# Altium schematic symbol library supply1.SCHLIB: 28 symbols
Pins are listed as number, name and electrical type; pins without a type are passive.

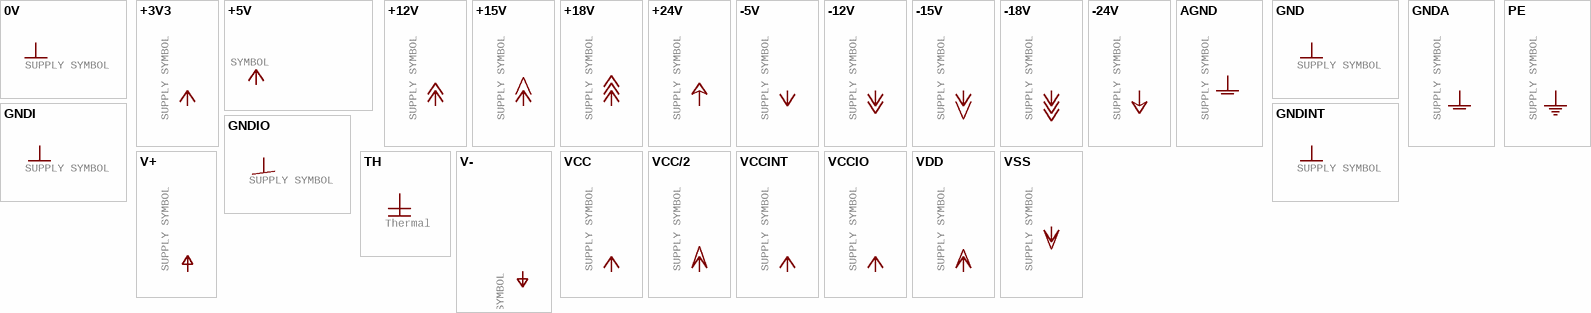
[diagram p0: symbols 0V to VSS]

## 0V
designator GND?, comment SUPPLY SYMBOL
GateName_1: 1; SymbolName_1: 0V; LibraryName: supply1; DeviceSetName: 0V
pins: ?1 0V (power)

## +3V3
designator +3V3?, comment SUPPLY SYMBOL
GateName_1: G$1; SymbolName_1: +3V3; LibraryName: supply1; DeviceSetName: +3V3
pins: ?1 +3V3 (power)

## +5V
designator P+?, comment SUPPLY SYMBOL
GateName_1: 1; SymbolName_1: +5V; LibraryName: supply1; DeviceSetName: +5V
pins: ?1 +5V (power)

## +12V
designator P+?, comment SUPPLY SYMBOL
GateName_1: 1; SymbolName_1: +12V; LibraryName: supply1; DeviceSetName: +12V
pins: ?1 +12V (power)

## +15V
designator P+?, comment SUPPLY SYMBOL
GateName_1: 1; SymbolName_1: +15V; LibraryName: supply1; DeviceSetName: +15V
pins: ?1 +15V (power)

## +18V
designator P+?, comment SUPPLY SYMBOL
GateName_1: 1; SymbolName_1: +18V; LibraryName: supply1; DeviceSetName: +18V
pins: ?1 +18V (power)

## +24V
designator P+?, comment SUPPLY SYMBOL
GateName_1: 1; SymbolName_1: +24V; LibraryName: supply1; DeviceSetName: +24V
pins: ?1 +24V (power)

## -5V
designator P-?, comment SUPPLY SYMBOL
GateName_1: 1; SymbolName_1: -5V; LibraryName: supply1; DeviceSetName: -5V
pins: ?1 -5V (power)

## -12V
designator P-?, comment SUPPLY SYMBOL
GateName_1: 1; SymbolName_1: -12V; LibraryName: supply1; DeviceSetName: -12V
pins: ?1 -12V (power)

## -15V
designator P-?, comment SUPPLY SYMBOL
GateName_1: 1; SymbolName_1: -15V; LibraryName: supply1; DeviceSetName: -15V
pins: ?1 -15V (power)

## -18V
designator P-?, comment SUPPLY SYMBOL
GateName_1: 1; SymbolName_1: -18V; LibraryName: supply1; DeviceSetName: -18V
pins: ?1 -18V (power)

## -24V
designator P-?, comment SUPPLY SYMBOL
GateName_1: 1; SymbolName_1: -24V; LibraryName: supply1; DeviceSetName: -24V
pins: ?1 -24V (power)

## AGND
designator AGND?, comment SUPPLY SYMBOL
GateName_1: VR1; SymbolName_1: AGND; LibraryName: supply1; DeviceSetName: AGND
pins: ?1 AGND (power)

## GND
designator GND?, comment SUPPLY SYMBOL
GateName_1: 1; SymbolName_1: GND; LibraryName: supply1; DeviceSetName: GND
pins: ?1 GND (power)

## GNDA
designator GND?, comment SUPPLY SYMBOL
GateName_1: 1; SymbolName_1: GNDA; LibraryName: supply1; DeviceSetName: GNDA
pins: ?1 GNDA (power)

## GNDI
designator GNDI?, comment SUPPLY SYMBOL
GateName_1: G$1; SymbolName_1: GNDI; LibraryName: supply1; DeviceSetName: GNDI
pins: ?1 GNDI (power)

## GNDINT
designator GND?, comment SUPPLY SYMBOL
GateName_1: G$1; SymbolName_1: GNDINT; LibraryName: supply1; DeviceSetName: GNDINT
pins: ?1 GNDINT (power)

## GNDIO
designator GND?, comment SUPPLY SYMBOL
GateName_1: G$1; SymbolName_1: GNDIO; LibraryName: supply1; DeviceSetName: GNDIO
pins: ?1 GNDIO (power)

## PE
designator PE?, comment SUPPLY SYMBOL
GateName_1: M; SymbolName_1: PE; LibraryName: supply1; DeviceSetName: PE
pins: ?1 PE (power)

## TH
designator TH?, comment Thermal
GateName_1: G$1; SymbolName_1: TH; LibraryName: supply1; DeviceSetName: TH
pins: ?1 TH (power)

## V+
designator P+?, comment SUPPLY SYMBOL
GateName_1: 1; SymbolName_1: V+; LibraryName: supply1; DeviceSetName: V+
pins: ?1 V+ (power)

## V-
designator P-?, comment SUPPLY SYMBOL
GateName_1: 1; SymbolName_1: V-; LibraryName: supply1; DeviceSetName: V-
pins: ?1 V- (power)

## VCC
designator P+?, comment SUPPLY SYMBOL
GateName_1: VCC; SymbolName_1: VCC; LibraryName: supply1; DeviceSetName: VCC
pins: ?1 VCC (power)

## VCC/2
designator P+?, comment SUPPLY SYMBOL
GateName_1: G$1; SymbolName_1: VCC/2; LibraryName: supply1; DeviceSetName: VCC/2
pins: ?1 VCC/2 (power)

## VCCINT
designator VCC?, comment SUPPLY SYMBOL
GateName_1: G$1; SymbolName_1: VCCINT; LibraryName: supply1; DeviceSetName: VCCINT
pins: ?1 VCCINT (power)

## VCCIO
designator VCC?, comment SUPPLY SYMBOL
GateName_1: G$1; SymbolName_1: VCCIO; LibraryName: supply1; DeviceSetName: VCCIO
pins: ?1 VCCIO (power)

## VDD
designator VDD?, comment SUPPLY SYMBOL
GateName_1: G$1; SymbolName_1: VDD; LibraryName: supply1; DeviceSetName: VDD
pins: ?1 VDD (power)

## VSS
designator VSS?, comment SUPPLY SYMBOL
GateName_1: G$1; SymbolName_1: VSS; LibraryName: supply1; DeviceSetName: VSS
pins: ?1 VSS (power)